# EAGLE library part SC-70-6 (library custom)
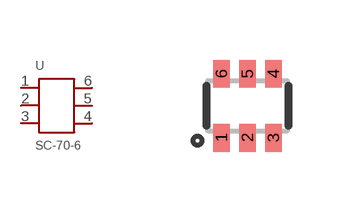
[diagram p56: symbol with the pads of SOT-363; footprint SOT-363]

Designator prefix U

## SC-70-6  [SOT-363]
1  1
2  2
3  3
4  4
5  5
6  6

## Footprint SOT-363 (pad centres in mm)
smd 0.42 x 0.7: 1 -0.65,-0.8; 2 0,-0.8; 3 0.65,-0.8; 4 0.65,0.8; 5 0,0.8; 6 -0.65,0.8